# Altium schematic symbol library SCH - MCU - STM32 - ST MICROELECTRONICS STM32H725ZGTX LQFP144.SchLib: 1 symbol
Pins are listed as number, name and electrical type; pins without a type are passive.

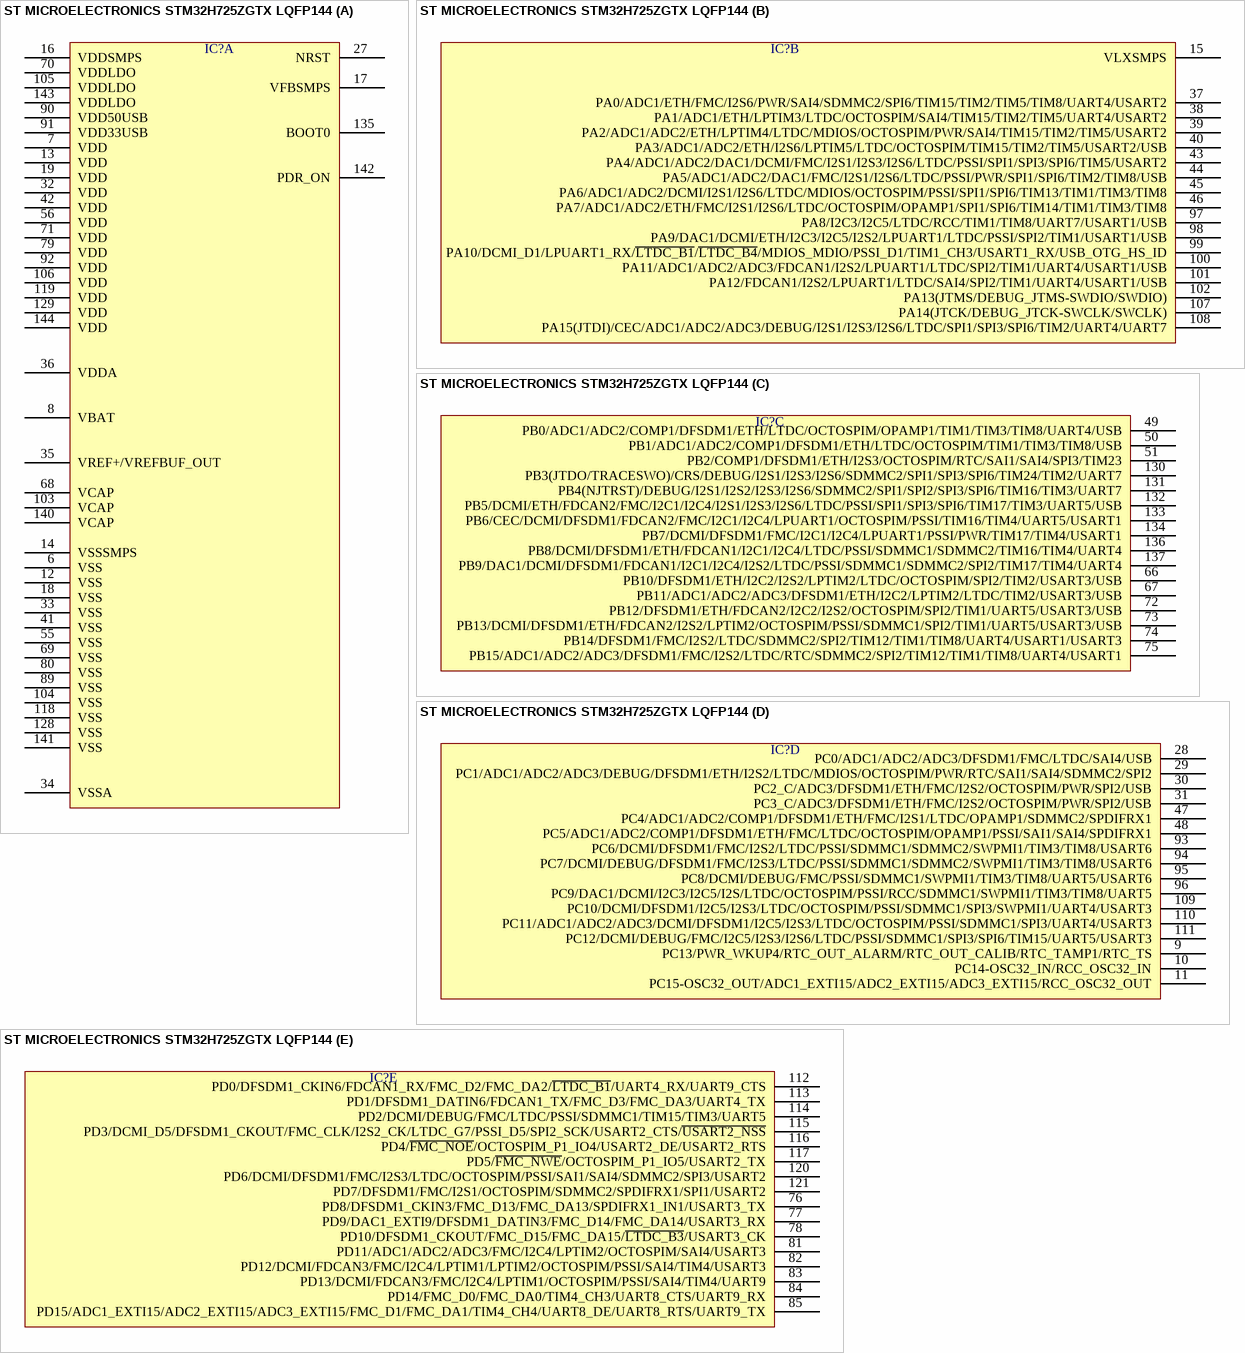
[diagram p0: symbol ST MICROELECTRONICS STM32H725ZGTX LQFP144]

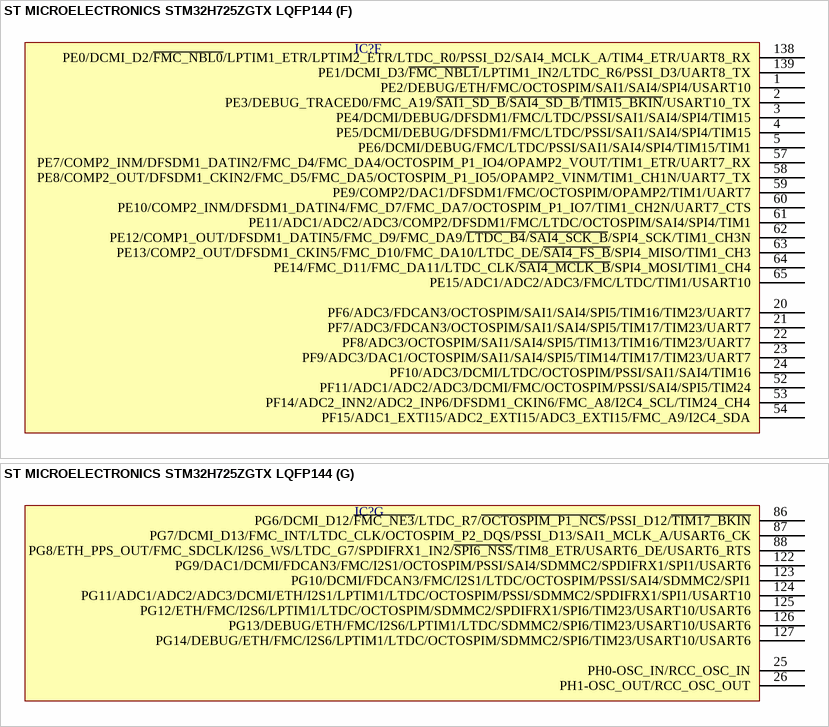
[diagram p1: symbol ST MICROELECTRONICS STM32H725ZGTX LQFP144]

## ST MICROELECTRONICS STM32H725ZGTX LQFP144
designator IC?  (value not drawn)
part A pins: 6 VSS, 7 VDD, 8 VBAT, 12 VSS, 13 VDD, 14 VSSSMPS, 16 VDDSMPS, 17 VFBSMPS, 18 VSS, 19 VDD, 27 NRST, 32 VDD, 33 VSS, 34 VSSA, 35 VREF+/VREFBUF_OUT, 36 VDDA, 41 VSS, 42 VDD, 55 VSS, 56 VDD, 68 VCAP, 69 VSS, 70 VDDLDO, 71 VDD, 79 VDD, 80 VSS, 89 VSS, 90 VDD50USB, 91 VDD33USB, 92 VDD, 103 VCAP, 104 VSS, 105 VDDLDO, 106 VDD, 118 VSS, 119 VDD, 128 VSS, 129 VDD, 135 BOOT0, 140 VCAP, 141 VSS, 142 PDR_ON, 143 VDDLDO, 144 VDD
part B pins: 15 VLXSMPS, 37 PA0/ADC1/ETH/FMC/I2S6/PWR/SAI4/SDMMC2/SPI6/TIM15/TIM2/TIM5/TIM8/UART4/USART2, 38 PA1/ADC1/ETH/LPTIM3/LTDC/OCTOSPIM/SAI4/TIM15/TIM2/TIM5/UART4/USART2, 39 PA2/ADC1/ADC2/ETH/LPTIM4/LTDC/MDIOS/OCTOSPIM/PWR/SAI4/TIM15/TIM2/TIM5/USART2, 40 PA3/ADC1/ADC2/ETH/I2S6/LPTIM5/LTDC/OCTOSPIM/TIM15/TIM2/TIM5/USART2/USB, 43 PA4/ADC1/ADC2/DAC1/DCMI/FMC/I2S1/I2S3/I2S6/LTDC/PSSI/SPI1/SPI3/SPI6/TIM5/USART2, 44 PA5/ADC1/ADC2/DAC1/FMC/I2S1/I2S6/LTDC/PSSI/PWR/SPI1/SPI6/TIM2/TIM8/USB, 45 PA6/ADC1/ADC2/DCMI/I2S1/I2S6/LTDC/MDIOS/OCTOSPIM/PSSI/SPI1/SPI6/TIM13/TIM1/TIM3/TIM8, 46 PA7/ADC1/ADC2/ETH/FMC/I2S1/I2S6/LTDC/OCTOSPIM/OPAMP1/SPI1/SPI6/TIM14/TIM1/TIM3/TIM8, 97 PA8/I2C3/I2C5/LTDC/RCC/TIM1/TIM8/UART7/USART1/USB, 98 PA9/DAC1/DCMI/ETH/I2C3/I2C5/I2S2/LPUART1/LTDC/PSSI/SPI2/TIM1/USART1/USB, 99 PA10/DCMI_D1/LPUART1_RX/~{LTDC_B1}/~{LTDC_B4}/MDIOS_MDIO/PSSI_D1/TIM1_CH3/USART1_RX/USB_OTG_HS_ID, 100 PA11/ADC1/ADC2/ADC3/FDCAN1/I2S2/LPUART1/LTDC/SPI2/TIM1/UART4/USART1/USB, 101 PA12/FDCAN1/I2S2/LPUART1/LTDC/SAI4/SPI2/TIM1/UART4/USART1/USB, 102 PA13(JTMS/DEBUG_JTMS-SWDIO/SWDIO), 107 PA14(JTCK/DEBUG_JTCK-SWCLK/SWCLK), 108 PA15(JTDI)/CEC/ADC1/ADC2/ADC3/DEBUG/I2S1/I2S3/I2S6/LTDC/SPI1/SPI3/SPI6/TIM2/UART4/UART7
part C pins: 49 PB0/ADC1/ADC2/COMP1/DFSDM1/ETH/LTDC/OCTOSPIM/OPAMP1/TIM1/TIM3/TIM8/UART4/USB, 50 PB1/ADC1/ADC2/COMP1/DFSDM1/ETH/LTDC/OCTOSPIM/TIM1/TIM3/TIM8/USB, 51 PB2/COMP1/DFSDM1/ETH/I2S3/OCTOSPIM/RTC/SAI1/SAI4/SPI3/TIM23, 66 PB10/DFSDM1/ETH/I2C2/I2S2/LPTIM2/LTDC/OCTOSPIM/SPI2/TIM2/USART3/USB, 67 PB11/ADC1/ADC2/ADC3/DFSDM1/ETH/I2C2/LPTIM2/LTDC/TIM2/USART3/USB, 72 PB12/DFSDM1/ETH/FDCAN2/I2C2/I2S2/OCTOSPIM/SPI2/TIM1/UART5/USART3/USB, 73 PB13/DCMI/DFSDM1/ETH/FDCAN2/I2S2/LPTIM2/OCTOSPIM/PSSI/SDMMC1/SPI2/TIM1/UART5/USART3/USB, 74 PB14/DFSDM1/FMC/I2S2/LTDC/SDMMC2/SPI2/TIM12/TIM1/TIM8/UART4/USART1/USART3, 75 PB15/ADC1/ADC2/ADC3/DFSDM1/FMC/I2S2/LTDC/RTC/SDMMC2/SPI2/TIM12/TIM1/TIM8/UART4/USART1, 130 PB3(JTDO/TRACESWO)/CRS/DEBUG/I2S1/I2S3/I2S6/SDMMC2/SPI1/SPI3/SPI6/TIM24/TIM2/UART7, 131 PB4(NJTRST)/DEBUG/I2S1/I2S2/I2S3/I2S6/SDMMC2/SPI1/SPI2/SPI3/SPI6/TIM16/TIM3/UART7, 132 PB5/DCMI/ETH/FDCAN2/FMC/I2C1/I2C4/I2S1/I2S3/I2S6/LTDC/PSSI/SPI1/SPI3/SPI6/TIM17/TIM3/UART5/USB, 133 PB6/CEC/DCMI/DFSDM1/FDCAN2/FMC/I2C1/I2C4/LPUART1/OCTOSPIM/PSSI/TIM16/TIM4/UART5/USART1, 134 PB7/DCMI/DFSDM1/FMC/I2C1/I2C4/LPUART1/PSSI/PWR/TIM17/TIM4/USART1, 136 PB8/DCMI/DFSDM1/ETH/FDCAN1/I2C1/I2C4/LTDC/PSSI/SDMMC1/SDMMC2/TIM16/TIM4/UART4, 137 PB9/DAC1/DCMI/DFSDM1/FDCAN1/I2C1/I2C4/I2S2/LTDC/PSSI/SDMMC1/SDMMC2/SPI2/TIM17/TIM4/UART4
part D pins: 9 PC13/PWR_WKUP4/RTC_OUT_ALARM/RTC_OUT_CALIB/RTC_TAMP1/RTC_TS, 10 PC14-OSC32_IN/RCC_OSC32_IN, 11 PC15-OSC32_OUT/ADC1_EXTI15/ADC2_EXTI15/ADC3_EXTI15/RCC_OSC32_OUT, 28 PC0/ADC1/ADC2/ADC3/DFSDM1/FMC/LTDC/SAI4/USB, 29 PC1/ADC1/ADC2/ADC3/DEBUG/DFSDM1/ETH/I2S2/LTDC/MDIOS/OCTOSPIM/PWR/RTC/SAI1/SAI4/SDMMC2/SPI2, 30 PC2_C/ADC3/DFSDM1/ETH/FMC/I2S2/OCTOSPIM/PWR/SPI2/USB, 31 PC3_C/ADC3/DFSDM1/ETH/FMC/I2S2/OCTOSPIM/PWR/SPI2/USB, 47 PC4/ADC1/ADC2/COMP1/DFSDM1/ETH/FMC/I2S1/LTDC/OPAMP1/SDMMC2/SPDIFRX1, 48 PC5/ADC1/ADC2/COMP1/DFSDM1/ETH/FMC/LTDC/OCTOSPIM/OPAMP1/PSSI/SAI1/SAI4/SPDIFRX1, 93 PC6/DCMI/DFSDM1/FMC/I2S2/LTDC/PSSI/SDMMC1/SDMMC2/SWPMI1/TIM3/TIM8/USART6, 94 PC7/DCMI/DEBUG/DFSDM1/FMC/I2S3/LTDC/PSSI/SDMMC1/SDMMC2/SWPMI1/TIM3/TIM8/USART6, 95 PC8/DCMI/DEBUG/FMC/PSSI/SDMMC1/SWPMI1/TIM3/TIM8/UART5/USART6, 96 PC9/DAC1/DCMI/I2C3/I2C5/I2S/LTDC/OCTOSPIM/PSSI/RCC/SDMMC1/SWPMI1/TIM3/TIM8/UART5, 109 PC10/DCMI/DFSDM1/I2C5/I2S3/LTDC/OCTOSPIM/PSSI/SDMMC1/SPI3/SWPMI1/UART4/USART3, 110 PC11/ADC1/ADC2/ADC3/DCMI/DFSDM1/I2C5/I2S3/LTDC/OCTOSPIM/PSSI/SDMMC1/SPI3/UART4/USART3, 111 PC12/DCMI/DEBUG/FMC/I2C5/I2S3/I2S6/LTDC/PSSI/SDMMC1/SPI3/SPI6/TIM15/UART5/USART3
part E pins: 76 PD8/DFSDM1_CKIN3/FMC_D13/FMC_DA13/SPDIFRX1_IN1/USART3_TX, 77 PD9/DAC1_EXTI9/DFSDM1_DATIN3/FMC_D14/FMC_DA14/USART3_RX, 78 PD10/DFSDM1_CKOUT/FMC_D15/FMC_DA15/~{LTDC_B3}/USART3_CK, 81 PD11/ADC1/ADC2/ADC3/FMC/I2C4/LPTIM2/OCTOSPIM/SAI4/USART3, 82 PD12/DCMI/FDCAN3/FMC/I2C4/LPTIM1/LPTIM2/OCTOSPIM/PSSI/SAI4/TIM4/USART3, 83 PD13/DCMI/FDCAN3/FMC/I2C4/LPTIM1/OCTOSPIM/PSSI/SAI4/TIM4/UART9, 84 PD14/FMC_D0/FMC_DA0/TIM4_CH3/UART8_CTS/UART9_RX, 85 PD15/ADC1_EXTI15/ADC2_EXTI15/ADC3_EXTI15/FMC_D1/FMC_DA1/TIM4_CH4/UART8_DE/UART8_RTS/UART9_TX, 112 PD0/DFSDM1_CKIN6/FDCAN1_RX/FMC_D2/FMC_DA2/~{LTDC_B1}/UART4_RX/UART9_CTS, 113 PD1/DFSDM1_DATIN6/FDCAN1_TX/FMC_D3/FMC_DA3/UART4_TX, 114 PD2/DCMI/DEBUG/FMC/LTDC/PSSI/SDMMC1/TIM15/TIM3/UART5, 115 PD3/DCMI_D5/DFSDM1_CKOUT/FMC_CLK/I2S2_CK/LTDC_G7/PSSI_D5/SPI2_SCK/USART2_CTS/~{USART2_NSS}, 116 PD4/~{FMC_NOE}/OCTOSPIM_P1_IO4/USART2_DE/USART2_RTS, 117 PD5/~{FMC_NWE}/OCTOSPIM_P1_IO5/USART2_TX, 120 PD6/DCMI/DFSDM1/FMC/I2S3/LTDC/OCTOSPIM/PSSI/SAI1/SAI4/SDMMC2/SPI3/USART2, 121 PD7/DFSDM1/FMC/I2S1/OCTOSPIM/SDMMC2/SPDIFRX1/SPI1/USART2
part F pins: 1 PE2/DEBUG/ETH/FMC/OCTOSPIM/SAI1/SAI4/SPI4/USART10, 2 PE3/DEBUG_TRACED0/FMC_A19/~{SAI1_SD_B}/~{SAI4_SD_B}/~{TIM15_BKIN}/USART10_TX, 3 PE4/DCMI/DEBUG/DFSDM1/FMC/LTDC/PSSI/SAI1/SAI4/SPI4/TIM15, 4 PE5/DCMI/DEBUG/DFSDM1/FMC/LTDC/PSSI/SAI1/SAI4/SPI4/TIM15, 5 PE6/DCMI/DEBUG/FMC/LTDC/PSSI/SAI1/SAI4/SPI4/TIM15/TIM1, 20 PF6/ADC3/FDCAN3/OCTOSPIM/SAI1/SAI4/SPI5/TIM16/TIM23/UART7, 21 PF7/ADC3/FDCAN3/OCTOSPIM/SAI1/SAI4/SPI5/TIM17/TIM23/UART7, 22 PF8/ADC3/OCTOSPIM/SAI1/SAI4/SPI5/TIM13/TIM16/TIM23/UART7, 23 PF9/ADC3/DAC1/OCTOSPIM/SAI1/SAI4/SPI5/TIM14/TIM17/TIM23/UART7, 24 PF10/ADC3/DCMI/LTDC/OCTOSPIM/PSSI/SAI1/SAI4/TIM16, 52 PF11/ADC1/ADC2/ADC3/DCMI/FMC/OCTOSPIM/PSSI/SAI4/SPI5/TIM24, 53 PF14/ADC2_INN2/ADC2_INP6/DFSDM1_CKIN6/FMC_A8/I2C4_SCL/TIM24_CH4, 54 PF15/ADC1_EXTI15/ADC2_EXTI15/ADC3_EXTI15/FMC_A9/I2C4_SDA, 57 PE7/COMP2_INM/DFSDM1_DATIN2/FMC_D4/FMC_DA4/OCTOSPIM_P1_IO4/OPAMP2_VOUT/TIM1_ETR/UART7_RX, 58 PE8/COMP2_OUT/DFSDM1_CKIN2/FMC_D5/FMC_DA5/OCTOSPIM_P1_IO5/OPAMP2_VINM/TIM1_CH1N/UART7_TX, 59 PE9/COMP2/DAC1/DFSDM1/FMC/OCTOSPIM/OPAMP2/TIM1/UART7, 60 PE10/COMP2_INM/DFSDM1_DATIN4/FMC_D7/FMC_DA7/OCTOSPIM_P1_IO7/TIM1_CH2N/UART7_CTS, 61 PE11/ADC1/ADC2/ADC3/COMP2/DFSDM1/FMC/LTDC/OCTOSPIM/SAI4/SPI4/TIM1, 62 PE12/COMP1_OUT/DFSDM1_DATIN5/FMC_D9/FMC_DA9/~{LTDC_B4}/~{SAI4_SCK_B}/SPI4_SCK/TIM1_CH3N, 63 PE13/COMP2_OUT/DFSDM1_CKIN5/FMC_D10/FMC_DA10/LTDC_DE/~{SAI4_FS_B}/SPI4_MISO/TIM1_CH3, 64 PE14/FMC_D11/FMC_DA11/LTDC_CLK/~{SAI4_MCLK_B}/SPI4_MOSI/TIM1_CH4, 65 PE15/ADC1/ADC2/ADC3/FMC/LTDC/TIM1/USART10, 138 PE0/DCMI_D2/~{FMC_NBL0}/LPTIM1_ETR/LPTIM2_ETR/LTDC_R0/PSSI_D2/SAI4_MCLK_A/TIM4_ETR/UART8_RX, 139 PE1/DCMI_D3/~{FMC_NBL1}/LPTIM1_IN2/LTDC_R6/PSSI_D3/UART8_TX
part G pins: 25 PH0-OSC_IN/RCC_OSC_IN, 26 PH1-OSC_OUT/RCC_OSC_OUT, 86 PG6/DCMI_D12/~{FMC_NE3}/LTDC_R7/~{OCTOSPIM_P1_NCS}/PSSI_D12/~{TIM17_BKIN}, 87 PG7/DCMI_D13/FMC_INT/LTDC_CLK/OCTOSPIM_P2_DQS/PSSI_D13/SAI1_MCLK_A/USART6_CK, 88 PG8/ETH_PPS_OUT/FMC_SDCLK/I2S6_WS/LTDC_G7/SPDIFRX1_IN2/~{SPI6_NSS}/TIM8_ETR/USART6_DE/USART6_RTS, 122 PG9/DAC1/DCMI/FDCAN3/FMC/I2S1/OCTOSPIM/PSSI/SAI4/SDMMC2/SPDIFRX1/SPI1/USART6, 123 PG10/DCMI/FDCAN3/FMC/I2S1/LTDC/OCTOSPIM/PSSI/SAI4/SDMMC2/SPI1, 124 PG11/ADC1/ADC2/ADC3/DCMI/ETH/I2S1/LPTIM1/LTDC/OCTOSPIM/PSSI/SDMMC2/SPDIFRX1/SPI1/USART10, 125 PG12/ETH/FMC/I2S6/LPTIM1/LTDC/OCTOSPIM/SDMMC2/SPDIFRX1/SPI6/TIM23/USART10/USART6, 126 PG13/DEBUG/ETH/FMC/I2S6/LPTIM1/LTDC/SDMMC2/SPI6/TIM23/USART10/USART6, 127 PG14/DEBUG/ETH/FMC/I2S6/LPTIM1/LTDC/OCTOSPIM/SDMMC2/SPI6/TIM23/USART10/USART6